# EAGLE library part FLAT-FLEX-CONNECTOR-RA-09POS (library FlashPCB_Connectors)
FLAT-FLEX-CONNECTOR-RA-09POS - Flat Flex Connector 9 position Right Angle Technical Specifications: Number of Positions: 9 Contact: Top or Bottom Mount: Right Angle
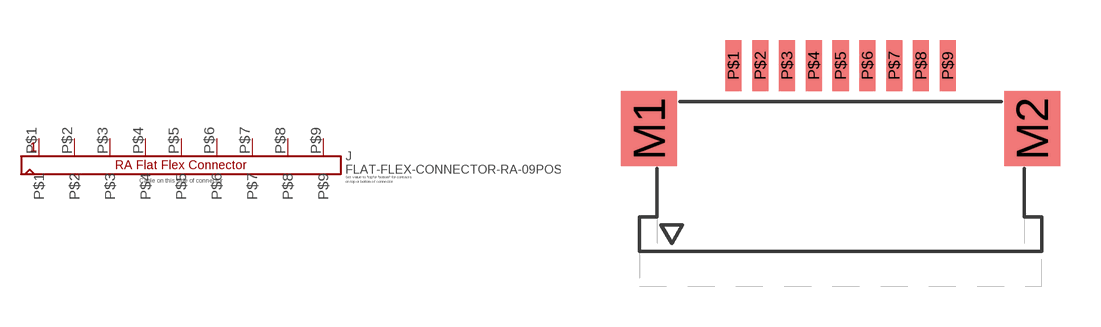
[diagram p107: symbol with the pads of FLAT-FLEX-CONNECTOR-MOLEX-522XX-RA-09POS; footprint FLAT-FLEX-CONNECTOR-MOLEX-522XX-RA-09POS]

Designator prefix J

## FLAT-FLEX-CONNECTOR-RA-09POS1MM-PITCH  [FLAT-FLEX-CONNECTOR-MOLEX-522XX-RA-09POS]
P$1  P$1
P$2  P$2
P$3  P$3
P$4  P$4
P$5  P$5
P$6  P$6
P$7  P$7
P$8  P$8
P$9  P$9

## Footprint FLAT-FLEX-CONNECTOR-MOLEX-522XX-RA-09POS (pad centres in mm)
smd 2.1 x 2.8: M1 -7.15,-1.4; M2 7.15,-1.4
smd 0.6 x 1.9: P$1 -4,0.95; P$2 -3,0.95; P$3 -2,0.95; P$4 -1,0.95; P$5 0,0.95; P$6 1,0.95; P$7 2,0.95; P$8 3,0.95; P$9 4,0.95